# Altium schematic symbol library USB1100-30-A.SchLib: 1 symbol
Pins are listed as number, name and electrical type; pins without a type are passive.

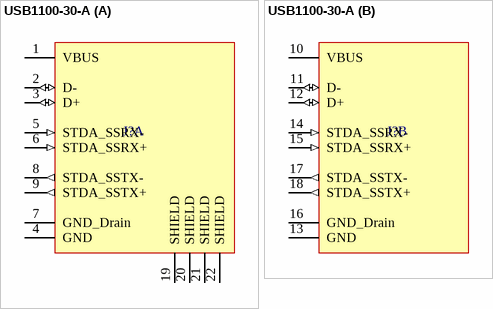
[diagram p0: symbol USB1100-30-A]

## USB1100-30-A
designator J?
USB 3.0 Dual Receptecal, Type A, Top Mount, Through Hole, Horizontal / A: Bottom / B: Top
part A pins: 1 VBUS (power), 2 D- (io), 3 D+ (io), 4 GND (power), 5 STDA_SSRX- (in), 6 STDA_SSRX+ (in), 7 GND_Drain (power), 8 STDA_SSTX- (out), 9 STDA_SSTX+ (out), 19 SHIELD, 20 SHIELD, 21 SHIELD, 22 SHIELD
part B pins: 10 VBUS (power), 11 D- (io), 12 D+ (io), 13 GND (power), 14 STDA_SSRX- (in), 15 STDA_SSRX+ (in), 16 GND_Drain (power), 17 STDA_SSTX- (out), 18 STDA_SSTX+ (out)